# EAGLE library part 1PEEK10 (library con-odu_med)
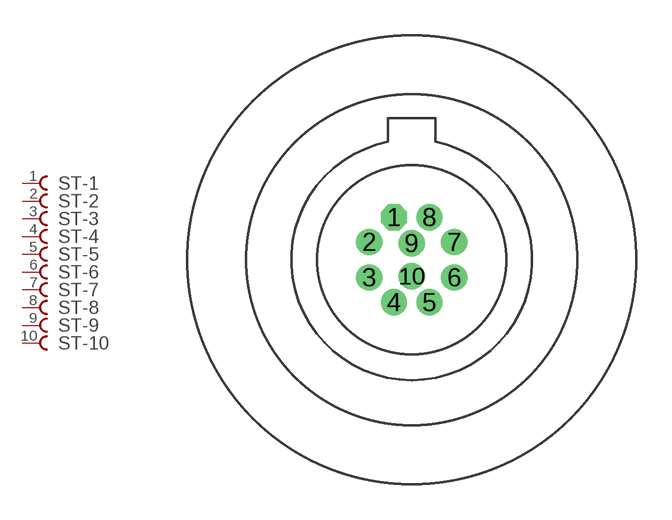
[diagram p4: symbol with the pads of 1PEEK10; footprint 1PEEK10]

Designator prefix ST; gates -1=KONTAKT -2=KONTAKT -3=KONTAKT -4=KONTAKT -5=KONTAKT -6=KONTAKT -7=KONTAKT -8=KONTAKT -9=KONTAKT -10=KONTAKT

## 1PEEK10  [1PEEK10]
1  -1:P$1  pas
2  -2:P$1  pas
3  -3:P$1  pas
4  -4:P$1  pas
5  -5:P$1  pas
6  -6:P$1  pas
7  -7:P$1  pas
8  -8:P$1  pas
9  -9:P$1  pas
10  -10:P$1  pas

## Footprint 1PEEK10 (pad centres in mm)
drill 0.6 octagon: 1 -0.75,1.8
drill 0.6: 2 -1.8,0.75; 3 -1.8,-0.75; 4 -0.75,-1.8; 5 0.75,-1.8; 6 1.8,-0.75; 7 1.8,0.75; 8 0.75,1.8; 9 0,0.7; 10 0,-0.7